# Altium schematic symbol library LVDS_TX_SOT-23-5.Schlib: 1 symbol
Pins are listed as number, name and electrical type; pins without a type are passive.

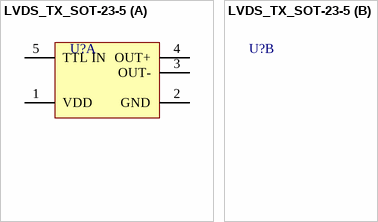
[diagram p0: symbol LVDS_TX_SOT-23-5]

## LVDS_TX_SOT-23-5
designator U?
part A pins: 1 VDD, 2 GND, 3 OUT-, 4 OUT+, 5 TTL IN
1 alternate drawing of the same symbol